# Altium schematic symbol library Recovery.SchLib: 5 symbols
Pins are listed as number, name and electrical type; pins without a type are passive.

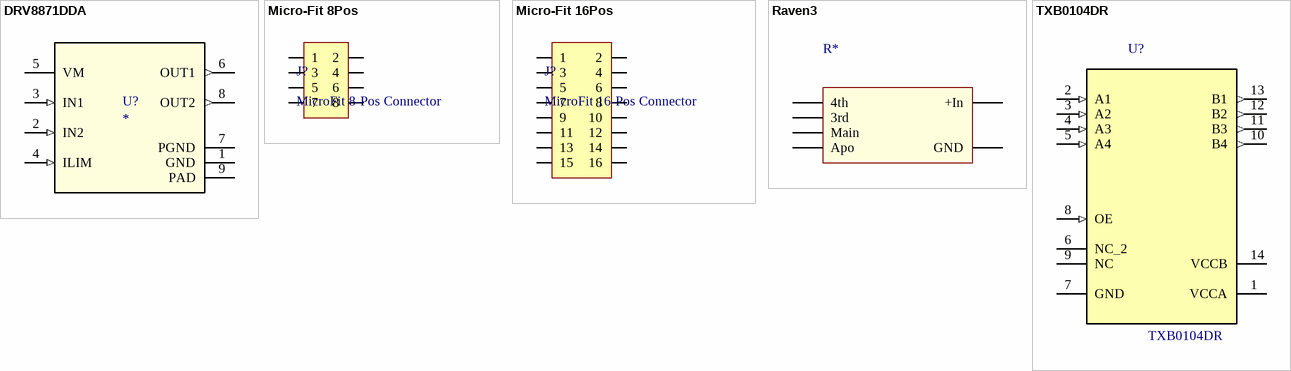
[diagram p0: symbols DRV8871DDA to TXB0104DR]

## DRV8871DDA
designator U?
Imported; PartNumber: DRV8871DDAR; Alternate_PartNumber: DRV8871DDA; Manufacturer: Texas Instruments; CompType: IC; PIN_COUNT: 9; PackageReference: DDA0008H; MountType: SMT; RefDes: RefDes; TYPE: TYPE; Value: Value
footprint DDA0008H_N
pins: 1 GND (power), 2 IN2 (in), 3 IN1 (in), 4 ILIM (in), 5 VM (power), 6 OUT1 (out), 7 PGND (power), 8 OUT2 (out), 9 PAD (power)

## Micro-Fit 8Pos
designator J?, comment MicroFit 8-Pos Connector
Molex MicroFit 8-Pos Connector; URL: https://www.digikey.com/products/en?WT.z_cid=sp_900_0310_buynow&keywords=430450813; DigiKey PN: WM2651-ND
footprint Microfit-8Pos
pins: 1, 2, 3, 4, 5, 6, 7, 8

## Micro-Fit 16Pos
designator J?, comment MicroFit 16-Pos Connector
Molex MicroFit 16-Pos Connector; URL: https://www.digikey.com/product-detail/en/molex-llc/0430451628/WM10719-ND/3310256; DigiKey PN: WM10719-ND
footprint Microfit-16Pos
pins: 1, 2, 3, 4, 5, 6, 7, 8, 9, 10, 11, 12, 13, 14, 15, 16

## Raven3
designator R*
Altimeter
footprint Raven3
pins: 1 4th, 2 3rd, 3 Main, 4 Apo, 5 GND, 6 +In

## TXB0104DR
designator U?
4-Bit Bidirectional Voltage-Level Shifter with Auto Direction Sensing and +/-15 kV ESD Protect 14-SOIC -40 to 85; MF: Texas Instruments; MP: TXB0104DR; Package: SOIC-14 Texas Instruments; SnapEDA_Link: https://www.snapeda.com/symbols-footprints/TXB0104DR/Texas%20Instruments/view-part/?ref=snap; Price: 0.76 USD; Availability: Good; Value: *
footprint SOIC127P600X175-14N
pins: 1 VCCA (power), 2 A1 (in), 3 A2 (in), 4 A3 (in), 5 A4 (in), 6 NC_2, 7 GND, 8 OE (in), 9 NC, 10 B4 (out), 11 B3 (out), 12 B2 (out), 13 B1 (out), 14 VCCB (power)